# Altium footprint library ESP8266-12Q.PcbLib: 1 footprints
Each footprint in its own frame and in the unit in brackets; x right, y up, seen from the top. Pads: shape width x height; smd on the part's side, far side on the other; paste and mask are expansions set on the pad; w line width, h text height; cw(c..) or ccw(c..) is an arc to the next point about the centre after c.
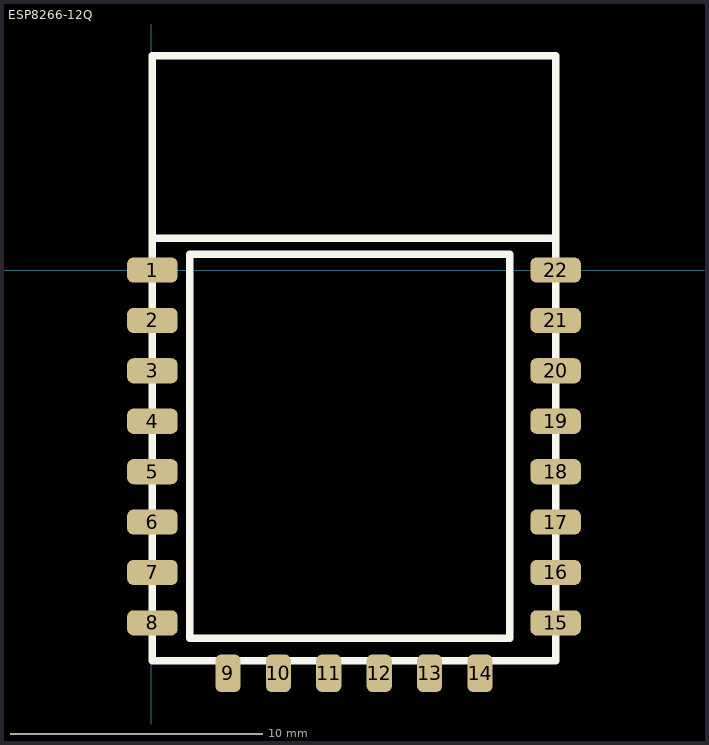
[diagram p0: the footprint, top view; thin cyan lines are the x and y axes]

## ESP8266-12Q [mm]
pads (22):
  rrect50% 2x1 smd: 1(0.039,0) 2(0.039,-2) 3(0.039,-4) 4(0.039,-6) 5(0.039,-8) 6(0.039,-10) 7(0.039,-12) 8(0.039,-14) 15(16.039,-14) 16(16.039,-12) 17(16.039,-10) 18(16.039,-8) 19(16.039,-6) 20(16.039,-4) 21(16.039,-2) 22(16.039,0)
  rrect50% 1x1.5 smd: 9(3.039,-16) 10(5.039,-16) 11(7.039,-16) 12(9.039,-16) 13(11.039,-16) 14(13.039,-16)
Top Overlay:
  lines w0.3: 0.039,1.27 16.002,1.27 ; 0.039,-15.5 0.039,8.5 16.039,8.5 16.039,-15.5 0.039,-15.5 ; 1.524,-14.605 14.224,-14.605 14.224,0.635 1.524,0.635 1.524,-14.605